# EAGLE library part MC10EL01DG (library ON Semiconductor_By_element14_Batch_1)
5V ECL 4-Input OR/NOR
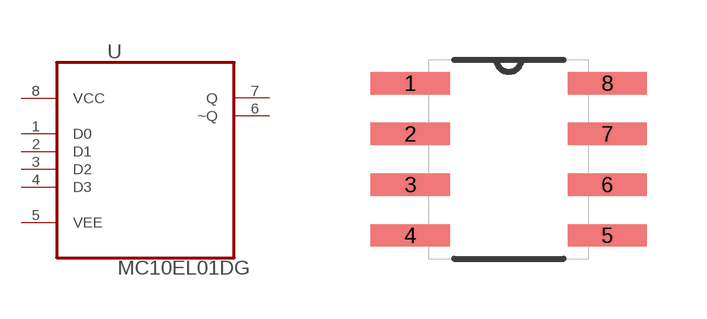
[diagram p159: symbol with the pads of SOIC127P600X175-8N; footprint SOIC127P600X175-8N]

Designator prefix U

## MC10EL01DG (MPN: MC10EL01DG; OC_FARNELL: 1468718; OC_NEWARK: 45J0833; P1I: o; PACKAGE: SOIC-8; SUPPLIER: Onsemiconductor)  [SOIC127P600X175-8N]
1  D0  in
2  D1  in
3  D2  in
4  D3  in
5  VEE  pwr
6  ~Q  out
7  Q  out
8  VCC  pwr

## Footprint SOIC127P600X175-8N (pad centres in mm)
smd 1.981 x 0.559: 1 -2.464,1.905; 2 -2.464,0.635; 3 -2.464,-0.635; 4 -2.464,-1.905; 5 2.464,-1.905; 6 2.464,-0.635; 7 2.464,0.635; 8 2.464,1.905